# EAGLE library part ICM-42670-P (library ICM-42670-P)
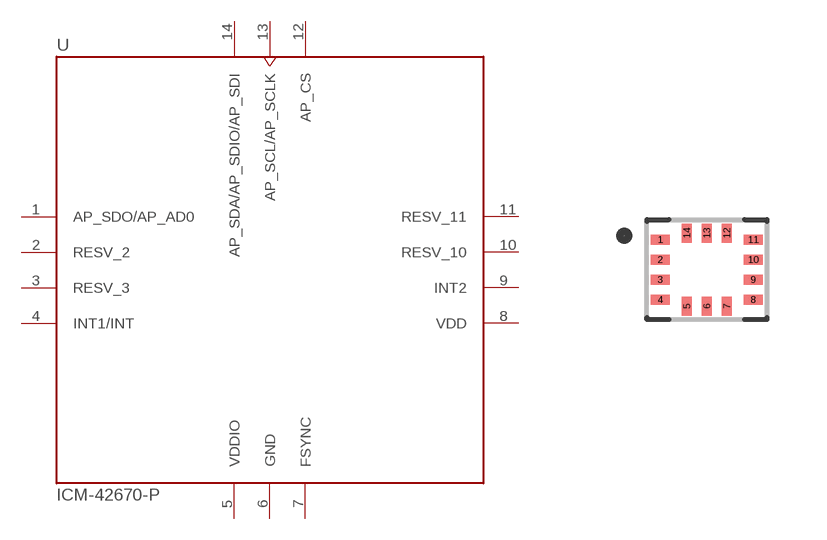
[diagram p0: symbol with the pads of IC_ICM-42670-P; footprint IC_ICM-42670-P]

Designator prefix U

## ICM-42670-P (Description: Low-Power, Premium Performance 6-Axis MotionTrackingTM IMU with I3C, I2C and SPI interface in 2.5mm x 3mm Package; Digi-Key_Part_Number: 1428-ICM-42670-PTR-ND; MF: TDK InvenSense; MP: ICM-42670-P; Package: None; Purchase-URL: https://pricing.snapeda.com/search/part/ICM-42670-P/?ref=eda)  [IC_ICM-42670-P]
1  AP_SDO/AP_AD0
2  RESV_2  pas
3  RESV_3  pas
4  INT1/INT  out
5  VDDIO  pwr
6  GND  pwr
7  FSYNC  in
8  VDD  pwr
9  INT2  out
10  RESV_10  pas
11  RESV_11  pas
12  AP_CS  in
13  AP_SCL/AP_SCLK  in
14  AP_SDA/AP_SDIO/AP_SDI

## Footprint IC_ICM-42670-P (pad centres in mm)
smd 0.475 x 0.25: 1 -1.163,0.75; 2 -1.163,0.25; 3 -1.163,-0.25; 4 -1.163,-0.75; 8 1.163,-0.75; 9 1.163,-0.25; 10 1.163,0.25; 11 1.163,0.75
smd 0.25 x 0.475: 5 -0.5,-0.912; 6 0,-0.912; 7 0.5,-0.912; 12 0.5,0.912; 13 0,0.912; 14 -0.5,0.912